# EAGLE library part PAM8403DR (library MouserUseful)
Class-D Stereo Audio Amp 5V 2x3W SOP16 DiodesZetex PAM8403DR Audio Amplifier, Class-D Stereo, 16-Pin SOP Source: Datasheet <https://componentsearchengine.com/Datasheets/1/PAM8403DR.pdf>
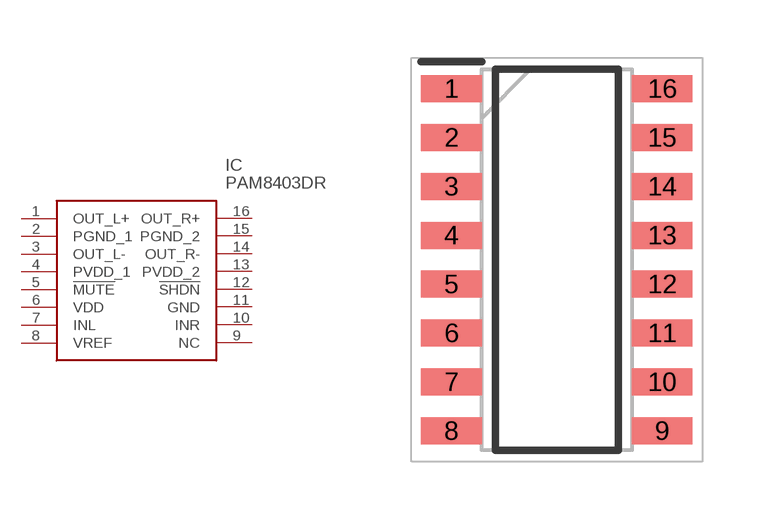
[diagram p1: symbol with the pads of SOIC127P605X175-16N; footprint SOIC127P605X175-16N]

Designator prefix IC

## PAM8403DR (DESCRIPTION: Class-D Stereo Audio Amp 5V 2x3W SOP16 DiodesZetex PAM8403DR Audio Amplifier, Class-D Stereo, 16-Pin SOP; HEIGHT: 1.75mm; MANUFACTURER_NAME: Diodes Inc.; MANUFACTURER_PART_NUMBER: PAM8403DR; MOUSER_PART_NUMBER: 621-PAM8403DR; MOUSER_PRICE-STOCK: https://www.mouser.com/Search/Refine.aspx?Keyword=621-PAM8403DR)  [SOIC127P605X175-16N]
1  OUT_L+  out
2  PGND_1  pwr
3  OUT_L-  out
4  PVDD_1  pwr
5  !MUTE
6  VDD  pwr
7  INL  in
8  VREF  in
9  NC  nc
10  INR  in
11  GND  pwr
12  !SHDN
13  PVDD_2  pwr
14  OUT_R-  out
15  PGND_2  pwr
16  OUT_R+  out

## Footprint SOIC127P605X175-16N (pad centres in mm)
SOP-16
smd 1.575 x 0.7: 1 -2.738,4.445; 2 -2.738,3.175; 3 -2.738,1.905; 4 -2.738,0.635; 5 -2.738,-0.635; 6 -2.738,-1.905; 7 -2.738,-3.175; 8 -2.738,-4.445; 9 2.738,-4.445; 10 2.738,-3.175; 11 2.738,-1.905; 12 2.738,-0.635; 13 2.738,0.635; 14 2.738,1.905; 15 2.738,3.175; 16 2.738,4.445